# Altium footprint library PSULib.PcbLib: 25 footprints (part 1 of 2)
Each footprint in its own frame and in the unit in brackets; x right, y up, seen from the top. Pads: shape width x height; smd on the part's side, far side on the other; paste and mask are expansions set on the pad; w line width, h text height; cw(c..) or ccw(c..) is an arc to the next point about the centre after c.
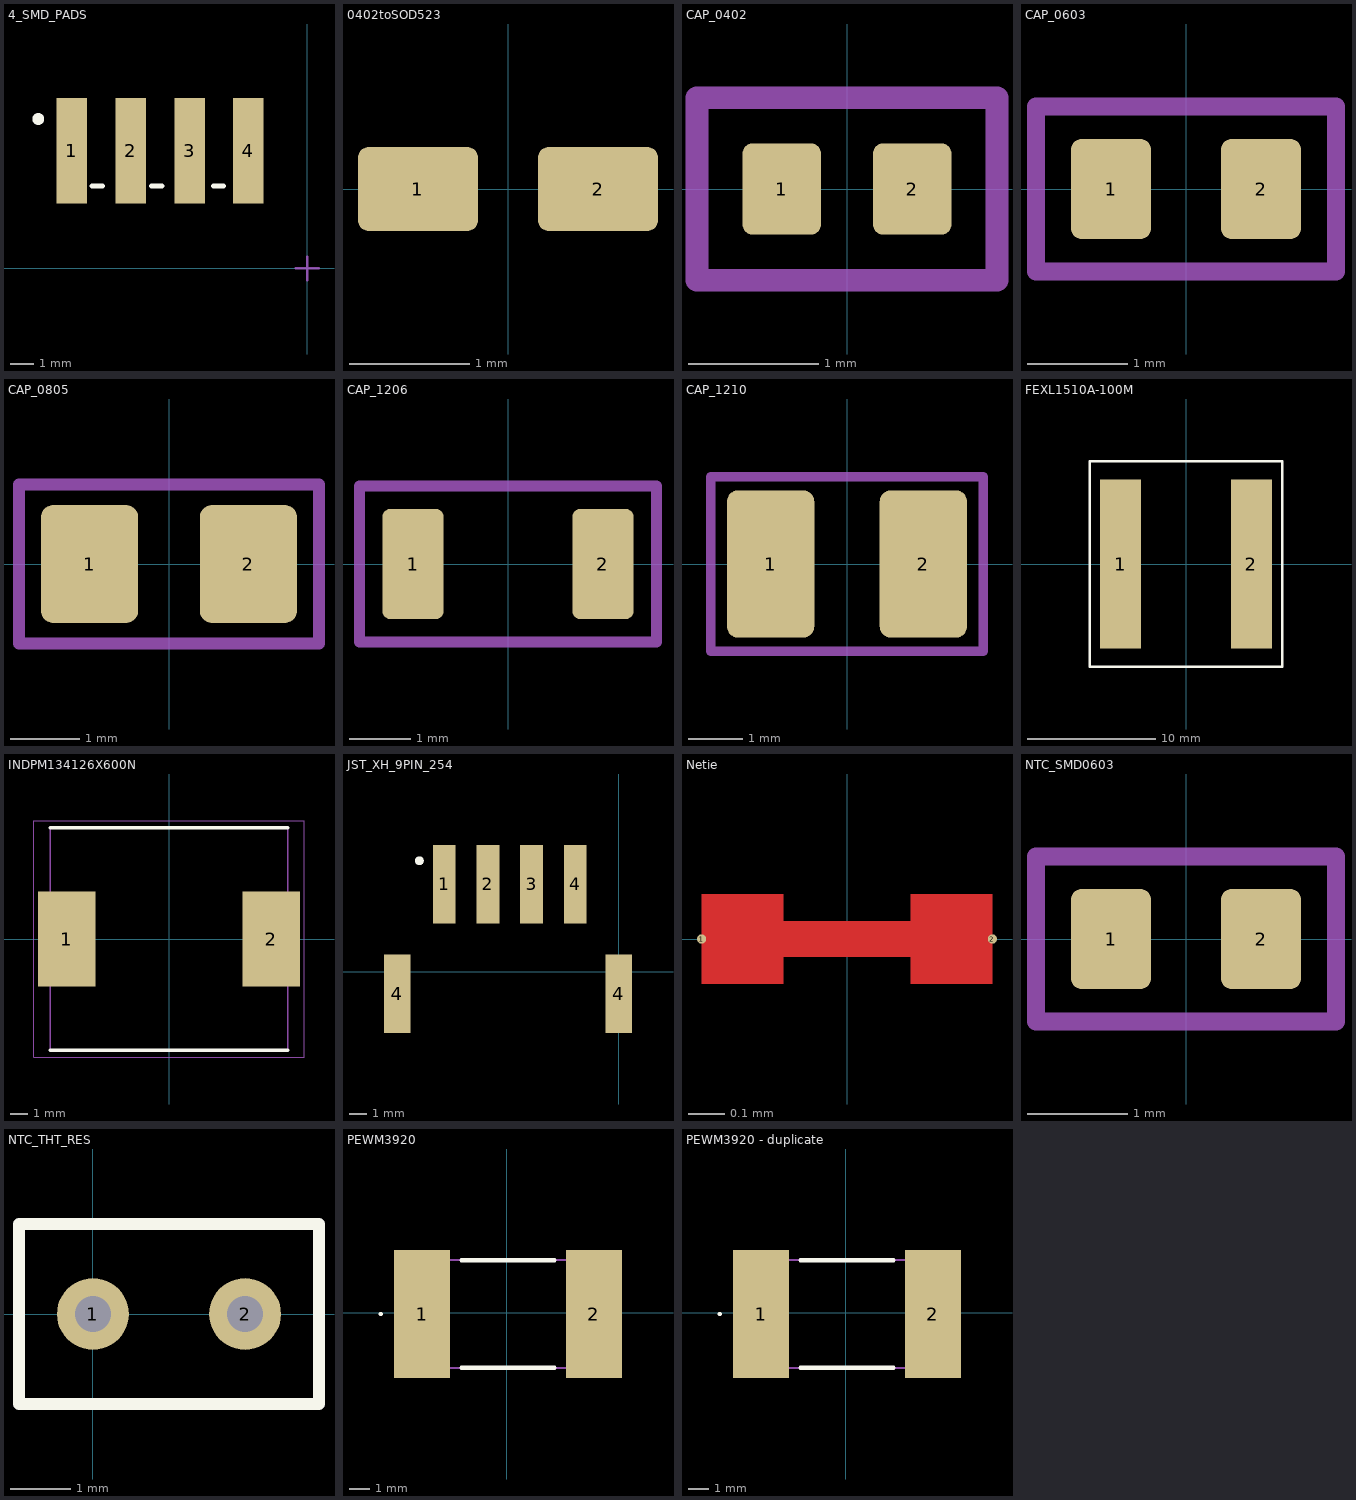
[diagram p0: the footprints below, top view; thin cyan lines are the x and y axes]

## 4_SMD_PADS [mm]
pads (4):
  rect 1.3x4.5 smd paste+0 mask+0: 1(-10,5) 2(-7.5,5) 3(-5,5) 4(-2.5,5)
Top Overlay:
  circle w0.25: c-11.43,6.35 r0.125
  lines w0.2: -9.155,3.5 -8.705,3.5 ; -6.615,3.5 -6.165,3.5 ; -3.995,3.5 -3.545,3.5
Top Component Center:
  lines w0.1: -0.5,0 0.5,0 ; 0,-0.5 0,0.5

## 0402toSOD523 [mm]
pads (2):
  rrect25% 1x0.7 smd: 1(-0.75,0) 2(0.75,0)
Mechanical 13:
  text "'.Designator'" at -5.665,-0.29 h1
3D body "C0402.step": height 0.37, standoff 0.01, extent -0.5,-0.265 0.5,0.265

## CAP_0402 [mm]
pads (2):
  rrect25% 0.6x0.7 smd: 1(-0.5,0) 2(0.5,0)
Mechanical 13:
  lines w0.175: -1.15,-0.7 1.15,-0.7 1.15,0.7 -1.15,0.7 -1.15,-0.7
  text "'.Designator'" at -5.665,-0.29 h1
3D body "C0402.step": height 0.37, standoff 0.01, extent -0.5,-0.265 0.5,0.265

## CAP_0603 [mm]
pads (2):
  rrect25% 0.8x1 smd: 1(-0.75,0) 2(0.75,0)
Mechanical 13:
  lines w0.175: -1.5,-0.825 1.5,-0.825 1.5,0.825 -1.5,0.825 -1.5,-0.825
  text "'.Designator'" at -5.665,-0.417 h1
3D body "C0603.step": height 0.51, standoff 0.01, extent -0.8,-0.4 0.8,0.4

## CAP_0805 [mm]
pads (2):
  rrect25% 1.4x1.7 smd: 1(-1.143,0) 2(1.143,0)
Mechanical 13:
  lines w0.175: -2.159,-1.143 -2.159,1.143 2.159,1.143 2.159,-1.143 -2.159,-1.143
  text "'.Designator'" at -5.665,-0.417 h1
3D body "C0805.stp": height 1.01, standoff 0.01, extent -1.15,-0.762 1.15,0.788

## CAP_1206 [mm]
pads (2):
  rrect25% 1x1.8 smd: 1(-1.55,0) 2(1.55,0)
Mechanical 13:
  lines w0.175: -2.425,-1.275 2.425,-1.275 2.425,1.275 -2.425,1.275 -2.425,-1.275
  text "'.Designator'" at -5.665,-0.417 h1
3D body "C1206.step": height 0.94, standoff 0, extent -1.6,-0.8 1.6,0.8

## CAP_1210 [mm]
height 1.35
pads (2):
  rrect25% 1.6x2.7 smd: 1(-1.4,0) 2(1.4,0)
Mechanical 13:
  lines w0.175: -2.5,-1.6 2.5,-1.6 2.5,1.6 -2.5,1.6 -2.5,-1.6
  text "'.Designator'" at -5.665,-0.417 h1
3D body "C1210.step": height 2.5, standoff 0, extent -1.6,-1.25 1.6,1.25

## FEXL1510A-100M [mm] "24A 10uH Molding Choke ±20% 29A SMD,15.5x16.5mm Power Inductors FEXL1510A-100M"
pads (2):
  rect 3.2x13.2 smd: 1(-5.1,0) 2(5.1,0)
Top Overlay:
  lines w0.2: -7.5,-8 7.5,-8 7.5,8 -7.5,8 -7.5,-8
3D body "SRP1510CA-5R6M.stp": height 9.7, standoff 0, extent -7.75,-8.25 7.75,8.25

## INDPM134126X600N [mm]
pads (2):
  rect 3.25x5.4 smd: 1(-5.8,0) 2(5.8,0)
Top Overlay:
  lines w0.2: -6.725,-6.3 6.725,-6.3 ; -6.725,6.3 6.725,6.3
Mechanical 15:
  lines w0.1: -6.725,-6.3 -6.725,6.3 6.725,6.3 6.725,-6.3 -6.725,-6.3
Mechanical 20:
  lines w0.05: -7.675,-6.7 -7.675,6.7 7.675,6.7 7.675,-6.7 -7.675,-6.7
3D body "FXL1360-4R7-M.stp": height 6, standoff 0, extent -7.125,-6.2 6.325,6.4

## JST_XH_9PIN_254 [mm]
pads (6):
  rect 1.3x4.5 smd paste+0 mask+0: 1(-10,5) 2(-7.5,5) 3(-5,5) 4(-2.5,5)
  rect 1.5x4.5 smd paste+0 mask+0: 4(-12.7,-1.27) 4(0,-1.27)
Top Overlay:
  circle w0.25: c-11.43,6.35 r0.125
Top Component Center:
  lines w0.1: -0.5,0 0.5,0 ; 0,-0.5 0,0.5
3D body "JST - XH - SMD (R) - 4Pin - 2.54mm.stp": height 5.92, standoff 0, extent -13.921,-3.235 1.294,6.671

## MH 0.5mm [mm]
via 0,0 diameter 5 hole 5

## Netie [mil]
pads (2):
  round 1 smd paste+0 mask-393.7: 1(-15.75,0)
  round 1 smd mask-393.7: 2(15.75,0)
Top Layer:
  rectangle: -7.87,-1.97 7.87,1.97
  region: 6.89,4.82 6.89,-4.82 15.75,-4.82 15.75,4.82
  region: -15.75,4.82 -15.75,-4.82 -6.89,-4.82 -6.89,4.82

## NTC_SMD0603 [mm]
pads (2):
  rrect25% 0.8x1 smd: 1(-0.75,0) 2(0.75,0)
Mechanical 13:
  lines w0.175: -1.5,-0.825 -1.5,0.825 1.5,0.825 1.5,-0.825 -1.5,-0.825
  text "'.Designator'" at -5.665,-0.417 h1
3D body "R0603.step": height 0.52, standoff 0.01, extent -0.8,-0.43 0.8,0.43

## NTC_THT_RES [mm]
pads (2):
  round 1.2 hole 0.6: 1(0,0) 2(2.54,0)
Top Overlay:
  lines w0.2: -1.235,-1.5 -1.235,1.5 3.775,1.5 3.775,0 3.775,-1.5 -1.235,-1.5

## PEWM3920 [mm]
pads (2):
  rect 2.7x6.2 smd: 1(-4.094,-0.049) 2(4.206,-0.049)
Top Overlay:
  lines w0.1: -6.144,-0.049 ccw(c-6.094,-0.049) -6.044,-0.049 ; -6.144,-0.049 cw(c-6.094,-0.049) -6.044,-0.049 ; -6.144,-0.049 ccw(c-6.094,-0.049) -6.044,-0.049
  lines w0.2: -2.194,-2.649 2.306,-2.649 -2.194,-2.649 ; -2.194,2.551 2.306,2.551 -2.194,2.551
Mechanical 15:
  lines w0.1: 5.056,-2.649 -4.944,-2.649 -4.944,2.551 5.056,2.551

## PEWM3920 - duplicate [mm]
pads (2):
  rect 2.7x6.2 smd: 1(-4.094,-0.049) 2(4.206,-0.049)
Top Overlay:
  lines w0.1: -6.144,-0.049 ccw(c-6.094,-0.049) -6.044,-0.049 ; -6.144,-0.049 cw(c-6.094,-0.049) -6.044,-0.049 ; -6.144,-0.049 ccw(c-6.094,-0.049) -6.044,-0.049
  lines w0.2: -2.194,-2.649 2.306,-2.649 -2.194,-2.649 ; -2.194,2.551 2.306,2.551 -2.194,2.551
Mechanical 15:
  lines w0.1: 5.056,-2.649 -4.944,-2.649 -4.944,2.551 5.056,2.551